# EAGLE library part OLED (library esbd-transducers)
OLED OEL Display Module
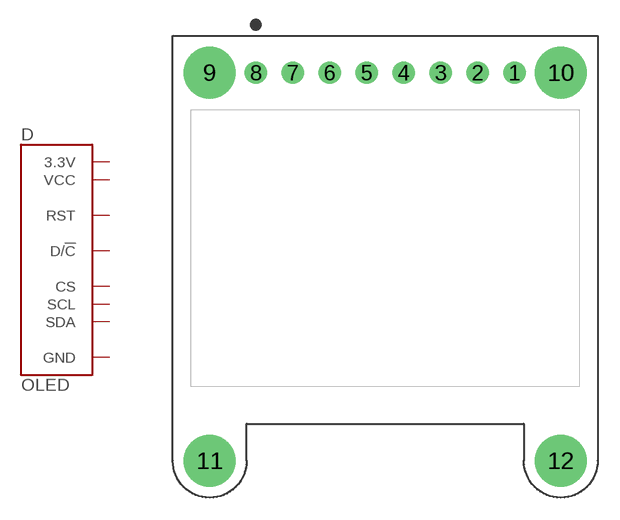
[diagram p1: symbol with the pads of OLED-0.96"; footprint OLED-0.96"]

Designator prefix D

## OLED-0.96"  [OLED-0.96"]
1  SDA
2  SCL  in
3  D/!C  in
4  RST  in
5  CS  in
6  3.3V  pwr
7  VCC  pwr
8  GND  pwr

## Footprint OLED-0.96" (pad centres in mm)
drill 1.016: 1 8.89,0; 2 6.35,0; 3 3.81,0; 4 1.27,0; 5 -1.27,0; 6 -3.81,0; 7 -6.35,0; 8 -8.89,0
drill 2.54: 9 -12.065,0; 10 12.065,0; 11 -12.065,-26.67; 12 12.065,-26.67